# Altium footprint library machada_IC_footprints.PcbLib: 29 footprints (part 1 of 2)
Each footprint in its own frame and in the unit in brackets; x right, y up, seen from the top. Pads: shape width x height; smd on the part's side, far side on the other; paste and mask are expansions set on the pad; w line width, h text height; cw(c..) or ccw(c..) is an arc to the next point about the centre after c.
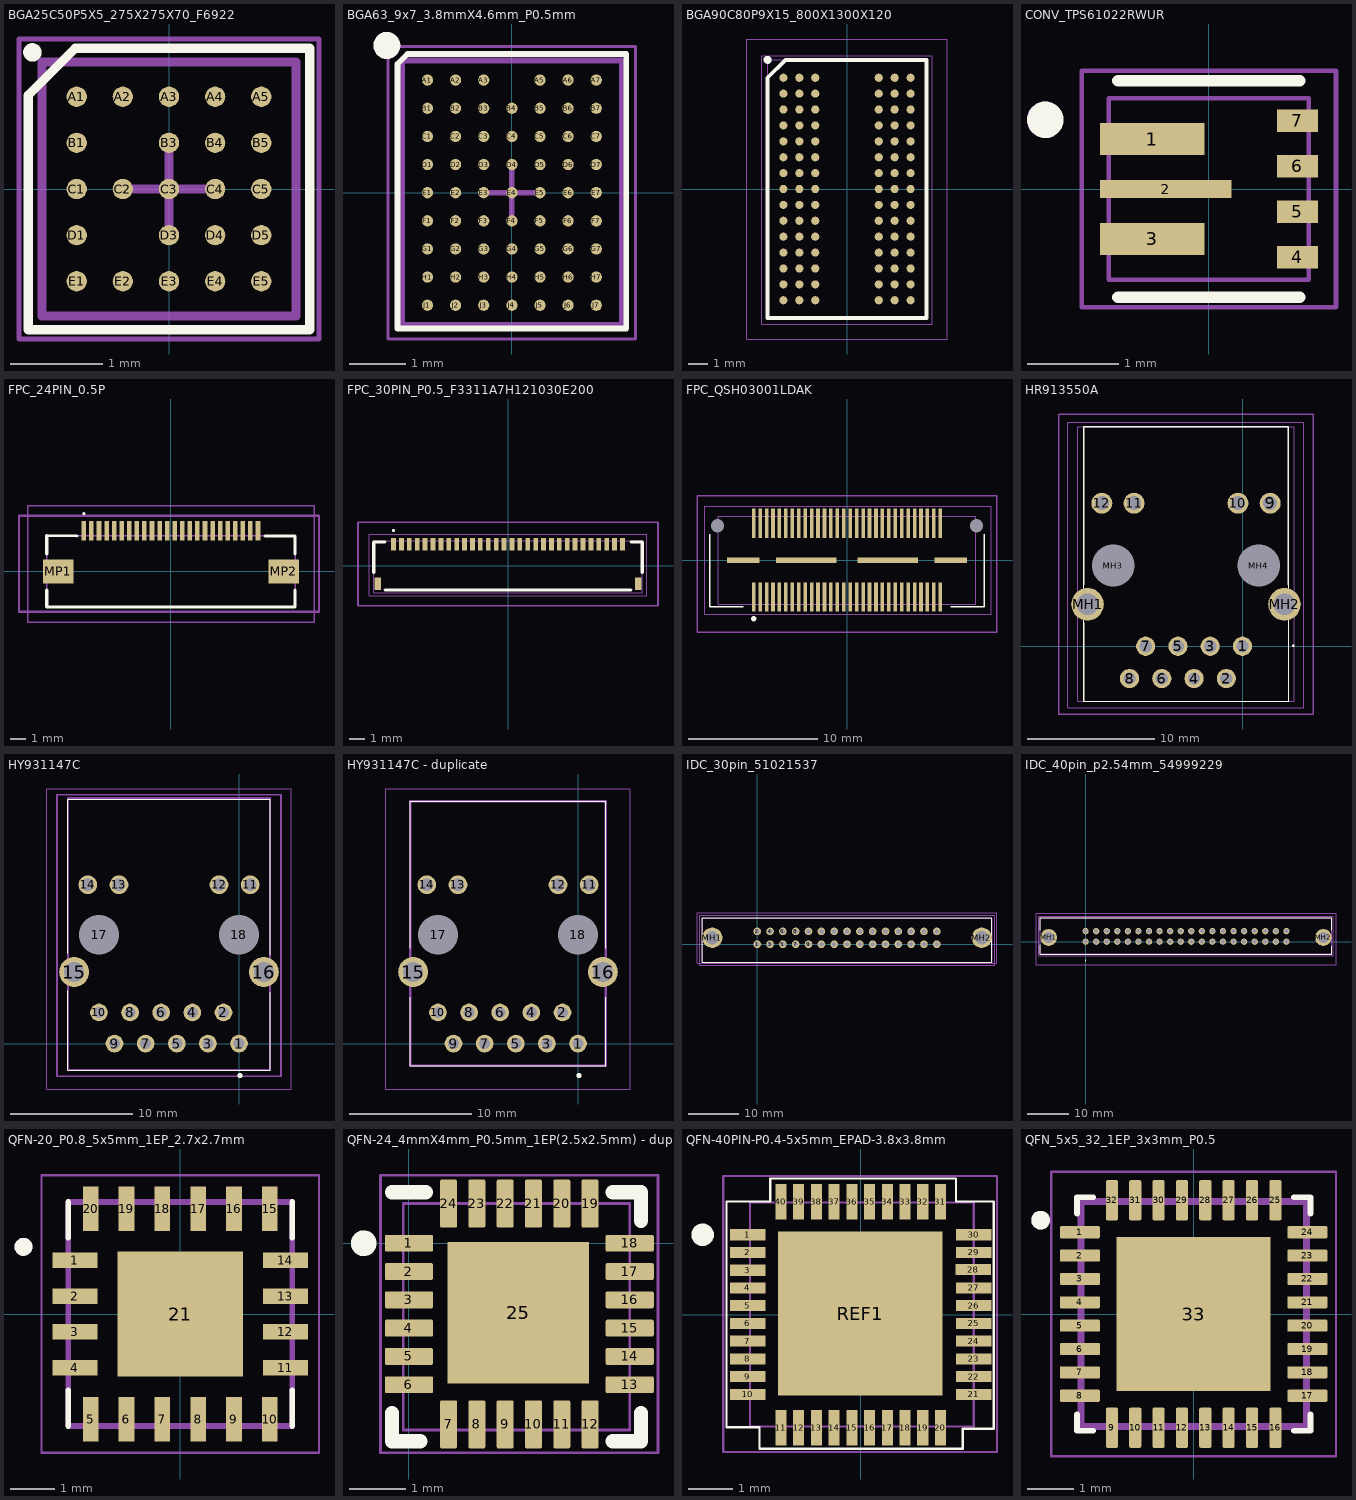
[diagram p0: the footprints below, top view; thin cyan lines are the x and y axes]

## BGA25C50P5X5_275X275X70_F6922 [mm] "BGA, 25-Leads, Body 2.75x2.75mmx0.70mm, Pitch 0.50mm"
height 0.7
pads (23):
  round 0.22 smd: A1(-1,1) A2(-0.5,1) A3(0,1) A4(0.5,1) A5(1,1) B1(-1,0.5) B3(0,0.5) B4(0.5,0.5) B5(1,0.5) C1(-1,0) C2(-0.5,0) C3(0,0) C4(0.5,0) C5(1,0) D1(-1,-0.5) D3(0,-0.5) D4(0.5,-0.5) D5(1,-0.5) E1(-1,-1) E2(-0.5,-1) E3(0,-1) E4(0.5,-1) E5(1,-1)
Top Overlay:
  circle w0.1: c-1.48,1.48 r0.05
  lines w0.1: -1.524,-1.524 -1.524,1.016 -1.016,1.524 1.524,1.524 1.524,-1.524 -1.524,-1.524
  text ".designator" at -4.246,2.54 h1.52
Top Courtyard:
  lines w0.05: -1.625,-1.625 1.625,-1.625 1.625,1.625 -1.625,1.625 -1.625,-1.625
  lines w0.1: -0.5,0 0.5,0 ; 0,-0.5 0,0.5
Top Assembly:
  lines w0.1: -1.375,-1.375 1.375,-1.375 1.375,1.375 -1.375,1.375 -1.375,-1.375
  text ".designator" at -5.746,4.191 h1.52
3D body "BGA25C50P5X5_275X275X70.step": height 0.7, standoff 0, extent -1.375,-1.375 1.375,1.375

## BGA63_9x7_3.8mmX4.6mm_P0.5mm [mm] "3.80 x 4.60 x 0.9 mm Body, 0.50 mm Pitch,"
height 0.7
pads (62):
  round 0.2 smd: A1(-1.5,2) A2(-1,2) A3(-0.5,2) A5(0.5,2) A6(1,2) A7(1.5,2) B1(-1.5,1.5) B2(-1,1.5) B3(-0.5,1.5) B4(0,1.5) B5(0.5,1.5) B6(1,1.5) B7(1.5,1.5) C1(-1.5,1) C2(-1,1) C3(-0.5,1) C4(0,1) C5(0.5,1) C6(1,1) C7(1.5,1) D1(-1.5,0.5) D2(-1,0.5) D3(-0.5,0.5) D4(0,0.5) D5(0.5,0.5) D6(1,0.5) D7(1.5,0.5) E1(-1.5,0) E2(-1,0) E3(-0.5,0) E4(0,0) E5(0.5,0) E6(1,0) E7(1.5,0) F1(-1.5,-0.5) F2(-1,-0.5) F3(-0.5,-0.5) F4(0,-0.5) F5(0.5,-0.5) F6(1,-0.5) F7(1.5,-0.5) G1(-1.5,-1) G2(-1,-1) G3(-0.5,-1) G4(0,-1) G5(0.5,-1) G6(1,-1) G7(1.5,-1) H1(-1.5,-1.5) H2(-1,-1.5) H3(-0.5,-1.5) H4(0,-1.5) H5(0.5,-1.5) H6(1,-1.5) H7(1.5,-1.5) J1(-1.5,-2) J2(-1,-2) J3(-0.5,-2) J4(0,-2) J5(0.5,-2) J6(1,-2) J7(1.5,-2)
Top Overlay:
  circle w0.25: c-2.222,2.616 r0.115
  lines w0.1: -2.032,-2.413 2.032,-2.413 2.032,2.464 -1.854,2.464 -2.032,2.286 -2.032,-2.413
Top Courtyard:
  lines w0.05: -2.2,-2.6 2.2,-2.6 2.2,2.6 -2.2,2.6 -2.2,-2.6
  lines w0.1: -0.5,0 0.5,0 ; 0,-0.5 0,0.5
Top Assembly:
  lines w0.1: -1.95,-2.35 1.95,-2.35 1.95,2.35 -1.95,2.35 -1.95,-2.35
3D body "BGA63_9x7_3.8mmX4.6mm_P0.5mm.step": height 0.7, standoff 0, extent -1.95,-2.35 1.95,2.35

## BGA90C80P9X15_800X1300X120 [mm]
pads (90):
  round 0.41 smd: A1(-3.2,5.6) A2(-2.4,5.6) A3(-1.6,5.6) A7(1.6,5.6) A8(2.4,5.6) A9(3.2,5.6) B1(-3.2,4.8) B2(-2.4,4.8) B3(-1.6,4.8) B7(1.6,4.8) B8(2.4,4.8) B9(3.2,4.8) C1(-3.2,4) C2(-2.4,4) C3(-1.6,4) C7(1.6,4) C8(2.4,4) C9(3.2,4) D1(-3.2,3.2) D2(-2.4,3.2) D3(-1.6,3.2) D7(1.6,3.2) D8(2.4,3.2) D9(3.2,3.2) E1(-3.2,2.4) E2(-2.4,2.4) E3(-1.6,2.4) E7(1.6,2.4) E8(2.4,2.4) E9(3.2,2.4) F1(-3.2,1.6) F2(-2.4,1.6) F3(-1.6,1.6) F7(1.6,1.6) F8(2.4,1.6) F9(3.2,1.6) G1(-3.2,0.8) G2(-2.4,0.8) G3(-1.6,0.8) G7(1.6,0.8) G8(2.4,0.8) G9(3.2,0.8) H1(-3.2,0) H2(-2.4,0) H3(-1.6,0) H7(1.6,0) H8(2.4,0) H9(3.2,0) J1(-3.2,-0.8) J2(-2.4,-0.8) J3(-1.6,-0.8) J7(1.6,-0.8) J8(2.4,-0.8) J9(3.2,-0.8) K1(-3.2,-1.6) K2(-2.4,-1.6) K3(-1.6,-1.6) K7(1.6,-1.6) K8(2.4,-1.6) K9(3.2,-1.6) L1(-3.2,-2.4) L2(-2.4,-2.4) L3(-1.6,-2.4) L7(1.6,-2.4) L8(2.4,-2.4) L9(3.2,-2.4) M1(-3.2,-3.2) M2(-2.4,-3.2) M3(-1.6,-3.2) M7(1.6,-3.2) M8(2.4,-3.2) M9(3.2,-3.2) N1(-3.2,-4) N2(-2.4,-4) N3(-1.6,-4) N7(1.6,-4) N8(2.4,-4) N9(3.2,-4) P1(-3.2,-4.8) P2(-2.4,-4.8) P3(-1.6,-4.8) P7(1.6,-4.8) P8(2.4,-4.8) P9(3.2,-4.8) R1(-3.2,-5.6) R2(-2.4,-5.6) R3(-1.6,-5.6) R7(1.6,-5.6) R8(2.4,-5.6) R9(3.2,-5.6)
Top Overlay:
  circle w0.2: c-4,6.5 r0.1
  lines w0.2: -4,-6.5 -4,5.6 -3.1,6.5 4,6.5 4,-6.5 -4,-6.5
  text ".designator" at -5.846,7.462 h1.52
Top Courtyard:
  lines w0.05: -4.3,-6.8 -4.3,6.7 4.3,6.7 4.3,-6.8 -4.3,-6.8
Top Assembly:
  lines w0.05: -4,-6.5 4,-6.5 4,6.5 -4,6.5 -4,-6.5
  text ".designator" at -3.546,8.062 h1.52
Bottom Assembly:
  lines w0.1: -4,-6.5 4,-6.5 4,6.5
Mechanical 20:
  lines w0.05: -5.05,-7.55 -5.05,7.55 5.05,7.55 5.05,-7.55 -5.05,-7.55
3D body "IS42S32800G-6BLI.stp": height 1.2, standoff 0, extent -4,-6.5 4,6.5

## CONV_TPS61022RWUR [mm]
height 1
pads (7):
  rect 1.15x0.35 smd paste-2 mask+0.07: 1(-0.625,0.55) 3(-0.625,-0.55)
  rect 1.45x0.2 smd paste-2 mask+0.07: 2(-0.475,0)
  rect 0.45x0.25 smd mask+0.07: 4(0.975,-0.75) 5(0.975,-0.25) 6(0.975,0.25) 7(0.975,0.75)
Top Overlay:
  circle w0.2: c-1.8,0.762 r0.1
  lines w0.127: -1,-1.19 1,-1.19 ; -1,1.19 1,1.19
  text ".designator" at -3.646,-2.938 h1.52
Top Paste:
  region: -0.725,0.375 -1.2,0.375 -1.2,0.725 -0.725,0.725
  region: -0.05,0.375 -0.525,0.375 -0.525,0.725 -0.05,0.725
  region: -0.575,-0.1 -1.2,-0.1 -1.2,0.1 -0.575,0.1
  region: 0.25,-0.1 -0.375,-0.1 -0.375,0.1 0.25,0.1
  region: -0.725,-0.725 -1.2,-0.725 -1.2,-0.375 -0.725,-0.375
  region: -0.05,-0.725 -0.525,-0.725 -0.525,-0.375 -0.05,-0.375
Top Courtyard:
  lines w0.05: -1.4,-1.3 1.4,-1.3 1.4,1.3 -1.4,1.3 -1.4,-1.3
Bottom Courtyard:
  circle w0.2: c-1.803,0.763 r0.1
Top Assembly:
  lines w0.05: -1.1,-1 1.1,-1 1.1,1 -1.1,1 -1.1,-1
  text ".designator" at -3.246,2.286 h1.52
3D body "TPS61022RWUR--3DModel-STEP-56544.STEP": height 0.96, standoff -0.04, extent -1,-1 1,1

## FPC_24PIN_0.5P [mm]
pads (26):
  rect 0.3x1.3 smd paste+0 mask+0.1: 1(-5.75,2.68)
  rect 0.3x1.3 smd: 2(-5.25,2.68) 3(-4.75,2.68) 4(-4.25,2.68) 5(-3.75,2.68) 6(-3.25,2.68) 7(-2.75,2.68) 8(-2.25,2.68) 9(-1.75,2.68) 10(-1.25,2.68) 11(-0.75,2.68) 12(-0.25,2.68) 13(0.25,2.68) 14(0.75,2.68) 15(1.25,2.68) 16(1.75,2.68) 17(2.25,2.68) 18(2.75,2.68) 19(3.25,2.68) 20(3.75,2.68) 21(4.25,2.68) 22(4.75,2.68) 23(5.25,2.68) 24(5.75,2.68)
  rect 2x1.6 smd: MP1(-7.45,0) MP2(7.45,0)
Top Overlay:
  lines w0.1: -5.75,3.767 cw(c-5.75,3.817) -5.75,3.867 cw(c-5.75,3.817) -5.75,3.767
  lines w0.2: -8.2,-1.233 -8.2,-2.346 8.2,-2.346 8.2,-1.233 ; -8.2,1.167 -8.2,2.367 -6.2,2.355 ; 6.2,2.355 8.2,2.355 8.2,1.167
Top Courtyard:
  lines w0.15: -10.033,-2.667 9.779,-2.667 9.779,3.683 -10.033,3.683 -10.033,-2.667
Top Assembly:
  lines w0.1: -8.2,-2.346 -8.2,2.355 8.2,2.355 8.2,-2.346 -8.2,-2.346
Mechanical 20:
  lines w0.1: -9.45,-3.346 -9.45,4.33 9.45,4.33 9.45,-3.346 -9.45,-3.346
3D body "FPC_24PIN_0.5P.stp": height 2.1, standoff 0, extent -9.2,-2.038 9.2,3.062

## FPC_30PIN_P0.5_F3311A7H121030E200 [mm] "FPC/FFC 30PIN CONNECTOR 0.5 PITCH"
pads (32):
  rect 0.3x0.8 smd mask+0.061: 1(-7.25,1.375) 2(-6.75,1.375) 3(-6.25,1.375) 4(-5.75,1.375) 5(-5.25,1.375) 6(-4.75,1.375) 7(-4.25,1.375) 8(-3.75,1.375) 9(-3.25,1.375) 10(-2.75,1.375) 11(-2.25,1.375) 12(-1.75,1.375) 13(-1.25,1.375) 14(-0.75,1.375) 15(-0.25,1.375) 16(0.25,1.375) 17(0.75,1.375) 18(1.25,1.375) 19(1.75,1.375) 20(2.25,1.375) 21(2.75,1.375) 22(3.25,1.375) 23(3.75,1.375) 24(4.25,1.375) 25(4.75,1.375) 26(5.25,1.375) 27(5.75,1.375) 28(6.25,1.375) 29(6.75,1.375) 30(7.25,1.375)
  rect 0.4x0.8 smd mask+0.061: MP1(-8.25,-1.125) MP2(8.25,-1.125)
Top Overlay:
  lines w0.1: -7.25,2.2 ccw(c-7.25,2.25) -7.25,2.3 ccw(c-7.25,2.25) -7.25,2.2
  lines w0.2: -8.5,-0.4 -8.5,1.525 -7.8,1.525 ; -7.8,-1.525 7.8,-1.525 ; 7.8,1.525 8.5,1.525 8.5,-0.4
  text ".designator" at -7.546,2.662 h1.52
Top Courtyard:
  lines w0.05: -8.8,-1.9 8.8,-1.9 8.8,2 -8.8,2 -8.8,-1.9
Top Assembly:
  lines w0.05: -8.5,-1.7 8.5,-1.7 8.5,1.6 -8.5,1.6 -8.5,-1.7
  text ".designator" at -8.346,3.262 h1.52
Mechanical 20:
  lines w0.1: -9.5,-2.525 -9.5,2.775 9.5,2.775 9.5,-2.525 -9.5,-2.525
3D body "FPC_30PIN_P0.5_F3311A7H121030E200.stp": height 1.61, standoff -0.01, extent -8.5,-1.7 8.5,1.6

## FPC_QSH03001LDAK [mm] "QSH 0.5mm Pitch 20 Way 1 Row Right Angle PCB Socket, Surface Mount, Solder Termination"
pads (66):
  rect 0.279x2.27 smd: 1(-7.25,-2.865) 2(-7.25,2.865) 3(-6.75,-2.865) 4(-6.75,2.865) 5(-6.25,-2.865) 6(-6.25,2.865) 7(-5.75,-2.865) 8(-5.75,2.865) 9(-5.25,-2.865) 10(-5.25,2.865) 11(-4.75,-2.865) 12(-4.75,2.865) 13(-4.25,-2.865) 14(-4.25,2.865) 15(-3.75,-2.865) 16(-3.75,2.865) 17(-3.25,-2.865) 18(-3.25,2.865) 19(-2.75,-2.865) 20(-2.75,2.865) 21(-2.25,-2.865) 22(-2.25,2.865) 23(-1.75,-2.865) 24(-1.75,2.865) 25(-1.25,-2.865) 26(-1.25,2.865) 27(-0.75,-2.865) 28(-0.75,2.865) 29(-0.25,-2.865) 30(-0.25,2.865) 31(0.25,-2.865) 32(0.25,2.865) 33(0.75,-2.865) 34(0.75,2.865) 35(1.25,-2.865) 36(1.25,2.865) 37(1.75,-2.865) 38(1.75,2.865) 39(2.25,-2.865) 40(2.25,2.865) 41(2.75,-2.865) 42(2.75,2.865) 43(3.25,-2.865) 44(3.25,2.865) 45(3.75,-2.865) 46(3.75,2.865) 47(4.25,-2.865) 48(4.25,2.865) 49(4.75,-2.865) 50(4.75,2.865) 51(5.25,-2.865) 52(5.25,2.865) 53(5.75,-2.865) 54(5.75,2.865) 55(6.25,-2.865) 56(6.25,2.865) 57(6.75,-2.865) 58(6.75,2.865) 59(7.25,-2.865) 60(7.25,2.865)
  round 0.51 hole 1.02 unplated: MH1(-10.065,2.67) MH2(10.065,2.67)
  rect 2.54x0.43 smd: MP1(-8.065,0) MP2(8.065,0)
  rect 4.7x0.43 smd: MP3(-3.175,0) MP4(3.175,0)
Top Overlay:
  lines w0.1: -10.655,2 -10.655,-3.62 -8.065,-3.62 ; 8.065,-3.62 10.655,-3.62 10.655,2
  lines w0.3: -7.25,-4.6 cw(c-7.25,-4.55) -7.25,-4.5 cw(c-7.25,-4.55) -7.25,-4.6
Top Courtyard:
  lines w0.05: -11.063,-4.213 11.2,-4.213 11.2,4.2 -11.063,4.2 -11.063,-4.213
Top Assembly:
  lines w0.05: -10.013,-3.413 10,-3.413 10,3.4 -10.013,3.4 -10.013,-3.413
Mechanical 20:
  lines w0.1: -11.655,-5.6 11.655,-5.6 11.655,5 -11.655,5 -11.655,-5.6
3D body "QSH-030-01-C-D-A-K.stp": height 5.8, standoff -4.65, extent -10,-3.376 10,3.376

## HR913550A [mm]
pads (16):
  round 1.509 hole 0.97: 1(0,0) 2(-1.27,-2.54) 3(-2.54,0) 4(-3.81,-2.54) 5(-5.08,0) 6(-6.35,-2.54) 7(-7.62,0) 8(-8.89,-2.54)
  round 1.65 hole 1.1: 9(2.18,11.25) 10(-0.36,11.25) 11(-8.53,11.25) 12(-11.07,11.25)
  round 2.565 hole 1.71: MH1(-12.19,3.3) MH2(3.3,3.3)
  round 1.665 hole 3.33 unplated: MH3(-10.16,6.35) MH4(1.27,6.35)
Top Overlay:
  lines w0.05: -12.495,-4.343 -12.495,17.27 3.632,17.27 3.632,-4.343 -12.495,-4.343
  lines w0.1: -12.495,-4.33 -12.495,1.85 ; -12.495,4.85 -12.495,17.27 3.605,17.27 3.605,4.85 ; 4,0 cw(c4,0.05) 4,0.1 cw(c4,0.05) 4,0
  text ".designator" at -12.421,18.389 h1.52
Top Courtyard:
  lines w0.05: -13.741,-4.826 -13.741,17.602 4.826,17.602 4.826,-4.826 -13.741,-4.826
Top Assembly:
  lines w0.05: -12.979,-4.318 4.089,-4.318 4.089,17.272 -12.979,17.272 -12.979,-4.318
  text ".designator" at -12.598,18.974 h1.52
Mechanical 20:
  lines w0.1: -14.473,-5.33 -14.473,18.27 5.582,18.27 5.582,-5.33 -14.473,-5.33
3D body "HR913550A.stp": height 13.85, standoff -5, extent -12.939,-4.33 4.055,17.27

## HY931147C [mm]
pads (18):
  round 1.446 hole 0.89: 1(0,0) 2(-1.27,2.54) 3(-2.54,0) 4(-3.81,2.54) 5(-5.08,0) 6(-6.36,2.54) 7(-7.63,0) 8(-8.9,2.54) 9(-10.17,0) 10(-11.44,2.54)
  round 1.53 hole 1.02: 11(0.905,12.97) 12(-1.635,12.97) 13(-9.805,12.97) 14(-12.345,12.97)
  round 2.445 hole 1.63: 15(-13.465,5.84) 16(2.025,5.84)
  round 1.625 hole 3.25 unplated: 17(-11.435,8.89) 18(-0.005,8.89)
Top Overlay:
  lines w0.1: -13.97,4.318 -13.97,-2.159 2.54,-2.159 2.54,4.191 ; -13.97,7.366 -13.97,18.923 -13.97,19.939 -6.699,19.939 -3.937,19.939 ; -4.008,19.971 -2.635,19.971 2.54,19.971 2.54,18.923 2.54,7.239
  lines w0.2: -0.02,-2.61 cw(c0.08,-2.61) 0.18,-2.61 cw(c0.08,-2.61) -0.02,-2.61
Top Courtyard:
  lines w0.15: -14.859,-2.667 3.429,-2.667 3.429,20.32 -14.859,20.32 -14.859,-2.667
Top Assembly:
  lines w0.15: -13.97,-2.159 2.54,-2.159 2.54,20.066 -13.97,20.066 -13.97,-2.159
Mechanical 20:
  lines w0.1: -15.687,-3.71 4.248,-3.71 4.248,20.79 -15.687,20.79 -15.687,-3.71
3D body "rj45_poe_HY931147C.stp": height 15.81, standoff -5, extent -14.172,-1.788 2.742,19.812

## HY931147C - duplicate [mm]
pads (18):
  round 1.446 hole 0.89: 1(0,0) 2(-1.27,2.54) 3(-2.54,0) 4(-3.81,2.54) 5(-5.08,0) 6(-6.36,2.54) 7(-7.63,0) 8(-8.9,2.54) 9(-10.17,0) 10(-11.44,2.54)
  round 1.53 hole 1.02: 11(0.905,12.97) 12(-1.635,12.97) 13(-9.805,12.97) 14(-12.345,12.97)
  round 2.445 hole 1.63: 15(-13.465,5.84) 16(2.025,5.84)
  round 1.625 hole 3.25 unplated: 17(-11.435,8.89) 18(-0.005,8.89)
Top Overlay:
  lines w0.1: -13.72,3.79 -13.72,-1.81 2.28,-1.81 2.28,3.79 ; -13.72,7.79 -13.72,19.79 2.28,19.79 2.28,7.79
  lines w0.2: -0.02,-2.61 cw(c0.08,-2.61) 0.18,-2.61 cw(c0.08,-2.61) -0.02,-2.61
Bottom Assembly:
  lines w0.2: -13.72,-1.81 2.28,-1.81 2.28,19.79 -13.72,19.79 -13.72,-1.81
Mechanical 20:
  lines w0.1: -15.687,-3.71 4.248,-3.71 4.248,20.79 -15.687,20.79 -15.687,-3.71

## IDC_30pin_51021537 [mm]
pads (32):
  round 1.509 hole 0.97: 1(0,0) 2(0,2.54) 3(2.54,0) 4(2.54,2.54) 5(5.08,0) 6(5.08,2.54) 7(7.62,0) 8(7.62,2.54) 9(10.16,0) 10(10.16,2.54) 11(12.7,0) 12(12.7,2.54) 13(15.24,0) 14(15.24,2.54) 15(17.78,0) 16(17.78,2.54) 17(20.32,0) 18(20.32,2.54) 19(22.86,0) 20(22.86,2.54) 21(25.4,0) 22(25.4,2.54) 23(27.94,0) 24(27.94,2.54) 25(30.48,0) 26(30.48,2.54) 27(33.02,0) 28(33.02,2.54) 29(35.56,0) 30(35.56,2.54)
  round 4.035 hole 2.69: MH1(-8.89,1.27) MH2(44.45,1.27)
Top Overlay:
  lines w0.05: -10.92,-3.6 46.48,-3.6 46.48,5.27 -10.92,5.27 -10.92,-3.6
  lines w0.1: -10.92,-3.6 -10.92,-0.73 ; -10.92,3.27 -10.92,5.27 ; 22.78,5.27 46.48,5.27 46.48,3.27 ; 46.48,-2.73 46.48,-0.73
  text ".designator" at 10.954,6.262 h1.52
Top Courtyard:
  lines w0.05: -11.4,-4.2 47,-4.2 47,5.7 -11.4,5.7 -11.4,-4.2
Top Assembly:
  lines w0.05: -10.8,-3.7 46.5,-3.7 46.5,5.1 -10.8,5.1 -10.8,-3.7
  text ".designator" at 7.454,6.962 h1.52
Mechanical 20:
  lines w0.1: -11.92,-3.73 47.48,-3.73 47.48,6.27 -11.92,6.27 -11.92,-3.73
3D body "FPC_30PIN_IDC_2.54mm_5102153-7.stp": height 14.6, standoff -2.13, extent -10.902,-3.434 46.502,5.1

## IDC_40pin_p2.54mm_54999229 [mm]
pads (42):
  round 1.509 hole 0.97: 1(0,0) 2(0,2.54) 3(2.54,0) 4(2.54,2.54) 5(5.08,0) 6(5.08,2.54) 7(7.62,0) 8(7.62,2.54) 9(10.16,0) 10(10.16,2.54) 11(12.7,0) 12(12.7,2.54) 13(15.24,0) 14(15.24,2.54) 15(17.78,0) 16(17.78,2.54) 17(20.32,0) 18(20.32,2.54) 19(22.86,0) 20(22.86,2.54) 21(25.4,0) 22(25.4,2.54) 23(27.94,0) 24(27.94,2.54) 25(30.48,0) 26(30.48,2.54) 27(33.02,0) 28(33.02,2.54) 29(35.56,0) 30(35.56,2.54) 31(38.1,0) 32(38.1,2.54) 33(40.64,0) 34(40.64,2.54) 35(43.18,0) 36(43.18,2.54) 37(45.72,0) 38(45.72,2.54) 39(48.26,0) 40(48.26,2.54)
  round 4.035 hole 2.69: MH1(-8.89,1.02) MH2(57.15,1.02)
Top Overlay:
  lines w0.1: -10.92,-2.73 -10.92,-0.73 -10.92,-3.075 59.18,-3.075 ; 59.2,-3.1 59.2,-1.1 ; -10.92,5.8 -10.92,2.77 -10.92,5.8 ; -10.92,5.8 59.18,5.8 ; 59.18,5.8 59.18,2.77 59.18,5.8
  lines w0.2: 0,-4.5 ccw(c0,-4.45) 0,-4.4 ; 0,-4.5 cw(c0,-4.45) 0,-4.4 ; 0,-4.5 ccw(c0,-4.45) 0,-4.4
  text ".designator" at 11.654,6.962 h1.52
Top Courtyard:
  lines w0.05: -11.2,-3.4 59.5,-3.4 59.5,6.1 -11.2,6.1 -11.2,-3.4
Top Assembly:
  lines w0.05: -10.925,-2.95 59.175,-2.95 59.175,5.8 -10.925,5.8 -10.925,-2.95
  text ".designator" at 5.154,6.762 h1.52
Mechanical 20:
  lines w0.1: -11.92,-5.5 60.18,-5.5 60.18,6.8 -11.92,6.8 -11.92,-5.5
3D body "IDC_40PIN_P2.54MM_5499922-9.stp": height 27.46, standoff -2.13, extent -10.95,-2.917 59.154,5.617

## QFN-20_P0.8_5x5mm_1EP_2.7x2.7mm [mm]
pads (21):
  rect 1x0.35 smd: 1(-2.35,1.2) 2(-2.35,0.4) 3(-2.35,-0.4) 4(-2.35,-1.2) 11(2.35,-1.2) 12(2.35,-0.4) 13(2.35,0.4) 14(2.35,1.2)
  rect 0.35x1 smd: 5(-2,-2.35) 6(-1.2,-2.35) 7(-0.4,-2.35) 8(0.4,-2.35) 9(1.2,-2.35) 10(2,-2.35) 15(2,2.35) 16(1.2,2.35) 17(0.4,2.35) 18(-0.4,2.35) 19(-1.2,2.35) 20(-2,2.35)
  rect 2.8x2.8 smd paste-0.515: 21(0,0)
Top Overlay:
  circle w0.2: c-3.5,1.5 r0.1
  lines w0.127: -2.5,-2.5 -2.5,-1.7 ; -2.5,1.7 -2.5,2.5 ; 2.5,-2.5 2.5,-1.7 ; 2.5,1.7 2.5,2.5
Top Courtyard:
  lines w0.05: -3.1,-3.1 -3.1,3.1 3.1,3.1 3.1,-3.1 -3.1,-3.1
Bottom Courtyard:
  circle w0.2: c-3.5,1.5 r0.1
Top Assembly:
  lines w0.127: -2.5,-2.5 -2.5,2.5 2.5,2.5 2.5,-2.5 -2.5,-2.5
3D body "QFN-20 (5x5x0.9).step": height 0.92, standoff 0, extent -2.485,-2.515 2.515,2.485

## QFN-24_4mmX4mm_P0.5mm_1EP(2.5x2.5mm) - duplicate [mm]
pads (25):
  rrect20% 0.85x0.3 smd mask+0.065: 1(0,0) 2(0,-0.5) 3(0,-1) 4(0,-1.5) 5(0,-2) 6(0,-2.5) 13(3.9,-2.5) 14(3.9,-2) 15(3.9,-1.5) 16(3.9,-1) 17(3.9,-0.5) 18(3.9,0)
  rrect20% 0.3x0.85 smd mask+0.065: 7(0.7,-3.2) 8(1.2,-3.2) 9(1.7,-3.2) 10(2.2,-3.2) 11(2.7,-3.2) 12(3.2,-3.2) 19(3.2,0.7) 20(2.7,0.7) 21(2.2,0.7) 22(1.7,0.7) 23(1.2,0.7) 24(0.7,0.7)
  rect 2.5x2.5 smd: 25(1.93,-1.23)
Top Overlay:
  circle w0.254: c-0.8,0 r0.1
  lines w0.254: -0.3,-3 -0.3,-3.5 0.2,-3.5 ; -0.3,0.9 0.3,0.9 ; 3.6,-3.5 4.1,-3.5 4.1,-3 ; 3.6,0.9 4.1,0.9 4.1,0.4
  text ".designator" at -2.446,2.262 h1.52
Top Courtyard:
  lines w0.05: -0.5,-3.7 -0.5,1.2 4.4,1.2 4.4,-3.7 -0.5,-3.7
Top Assembly:
  lines w0.05: -0.1,-3.3 3.9,-3.3 3.9,0.7 -0.1,0.7 -0.1,-3.3
  text ".designator" at 4.754,0.962 h1.52
3D body "QFN24(4X4).STEP": height 0.87, standoff -0.03, extent -0.11,-3.31 3.91,0.71

## QFN-40PIN-P0.4-5x5mm_EPAD-3.8x3.8mm [mm]
pads (41):
  rect 0.8x0.25 smd mask+0.05: 1(-2.55,1.8) 2(-2.55,1.4) 3(-2.55,1) 4(-2.55,0.6) 5(-2.55,0.2) 6(-2.55,-0.2) 7(-2.55,-0.6) 8(-2.55,-1) 9(-2.55,-1.4) 10(-2.55,-1.8) 21(2.55,-1.8) 22(2.55,-1.4) 23(2.55,-1) 24(2.55,-0.6) 25(2.55,-0.2) 26(2.55,0.2) 27(2.55,0.6) 28(2.54,1.016) 29(2.55,1.4) 30(2.55,1.8)
  rect 0.25x0.8 smd mask+0.05: 11(-1.8,-2.55) 12(-1.4,-2.55) 13(-1,-2.55) 14(-0.6,-2.55) 15(-0.2,-2.55) 16(0.2,-2.55) 17(0.6,-2.55) 18(1,-2.55) 19(1.4,-2.55) 20(1.8,-2.55) 31(1.8,2.55) 32(1.4,2.55) 33(1,2.55) 34(0.6,2.55) 35(0.2,2.55) 36(-0.2,2.55) 37(-0.6,2.55) 38(-1,2.55) 39(-1.4,2.55) 40(-1.8,2.55)
  rect 3.7x3.7 smd: REF1(-0.01,0.022)
Top Overlay:
  circle w0.254: c-3.566,1.8 r0.127
  lines w0.05: -3.025,-2.54 -3.025,2.55 -2.042,2.55 -2.042,3.07 2.149,3.07 2.149,2.55 3,2.55 3,-0.905 3,-2.575 2.783,-2.575 2.3,-2.575 2.3,-3.026 -2.286,-3.026 -2.286,-2.54 -3.025,-2.54
  text ".designator" at -2.971,3.429 h1.2
Top Courtyard:
  lines w0.05: -3.1,-3.1 3.075,-3.1 3.075,3.125 -3.1,3.125 -3.1,-3.1
Top Assembly:
  lines w0.05: -2.5,-2.525 -2.5,2.525 2.55,2.525 2.55,-2.525 -2.5,-2.525
  text ".designator" at -3.171,4.104 h1.2
3D body "qfn-40-P0.4_5x5.STEP": height 0.9, standoff 0, extent -2.475,-2.5 2.525,2.5

## QFN_5x5_32_1EP_3x3mm_P0.5 [mm]
pads (33):
  rrect25% 0.86x0.26 smd: 1(-2.435,1.75) 2(-2.435,1.25) 3(-2.435,0.75) 4(-2.435,0.25) 5(-2.435,-0.25) 6(-2.435,-0.75) 7(-2.435,-1.25) 8(-2.435,-1.75) 17(2.435,-1.75) 18(2.435,-1.25) 19(2.435,-0.75) 20(2.435,-0.25) 21(2.435,0.25) 22(2.435,0.75) 23(2.435,1.25) 24(2.435,1.75)
  rrect25% 0.26x0.86 smd: 9(-1.75,-2.435) 10(-1.25,-2.435) 11(-0.75,-2.435) 12(-0.25,-2.435) 13(0.25,-2.435) 14(0.75,-2.435) 15(1.25,-2.435) 16(1.75,-2.435) 25(1.75,2.435) 26(1.25,2.435) 27(0.75,2.435) 28(0.25,2.435) 29(-0.25,2.435) 30(-0.75,2.435) 31(-1.25,2.435) 32(-1.75,2.435)
  rect 3.3x3.3 smd paste-3: 33(0,0)
Top Overlay:
  circle w0.2: c-3.275,2.01 r0.1
  lines w0.127: -2.5,-2.15 -2.5,-2.5 -2.15,-2.5 ; -2.5,2.15 -2.5,2.5 -2.15,2.5 ; 2.15,-2.5 2.5,-2.5 2.5,-2.15 ; 2.15,2.5 2.5,2.5 2.5,2.15
Top Paste:
  region: 1.24,-1.24 0.2,-1.24 0.2,-0.2 1.24,-0.2
  region: -0.2,-1.242 -1.242,-1.242 -1.242,-0.2 -0.2,-0.2
  region: -0.2,0.2 -1.24,0.2 -1.24,1.24 -0.2,1.24
  region: 1.24,0.2 0.2,0.2 0.2,1.24 1.24,1.24
Top Courtyard:
  lines w0.05: -3.048,-3.048 -3.048,3.048 3.048,3.048 3.048,-3.048 -3.048,-3.048
Bottom Courtyard:
  circle w0.2: c-3.275,2.01 r0.1
Top Assembly:
  lines w0.15: -2.413,-2.413 2.413,-2.413 2.413,2.413 -2.413,2.413 -2.413,-2.413
3D body "QFN-32_5x5mm.stp": height 1.05, standoff 0, extent -2.5,-2.5 2.5,2.5